# Altium schematic symbol library S7CAS_P07.SchLib: 14 symbols
Pins are listed as number, name and electrical type; pins without a type are passive.

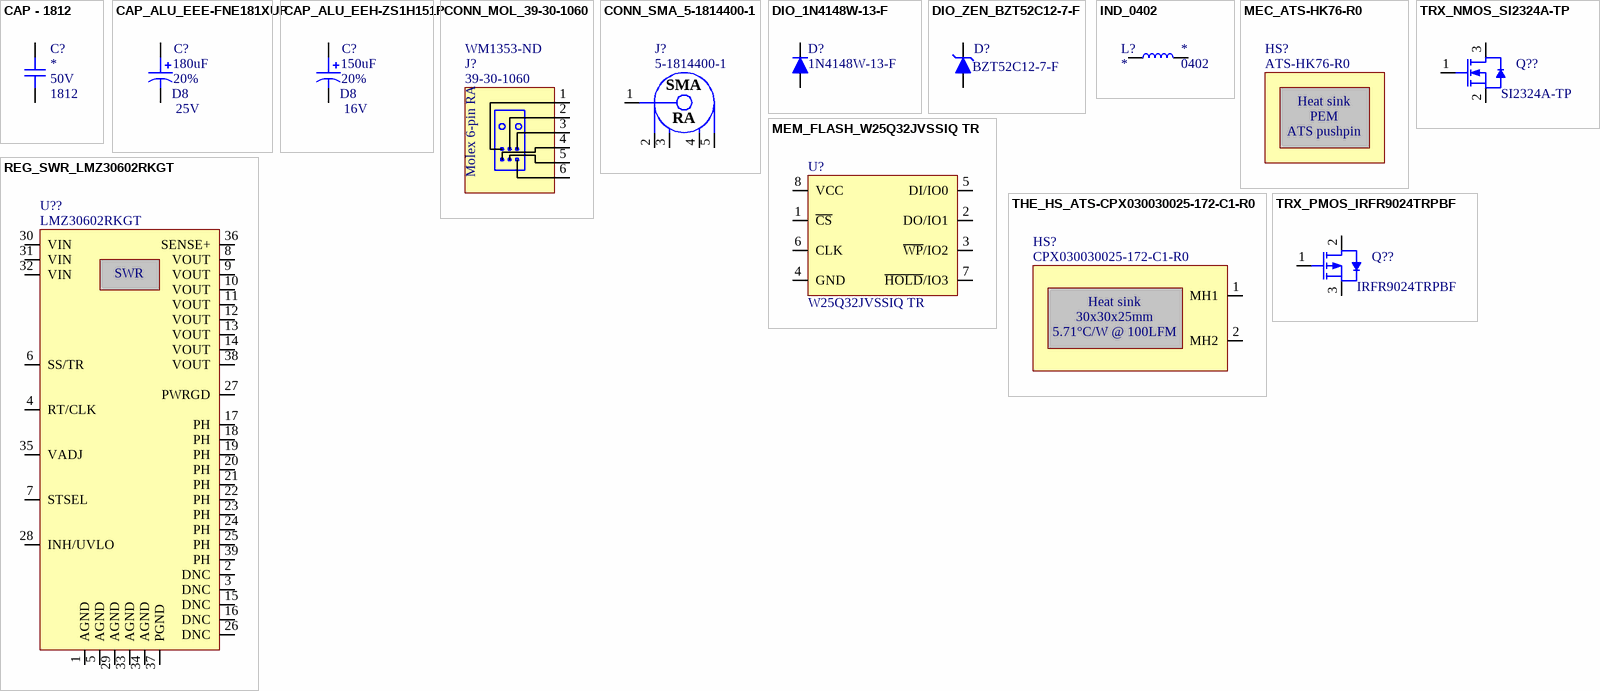
[diagram p0: symbols CAP - 1812 to TRX_PMOS_IRFR9024TRPBF]

## CAP - 1812
designator C?  Voltage: 50V  Package: 1812  (hidden comment: CAP - 1812)
Precision: 10%; Current: *; CreatedBy: Jonathan Bouchard; Power: *; Value: *
footprint CAP_1812
pins: 1, 2

## CAP_ALU_EEE-FNE181XUP
designator C?, comment value 180uF  Voltage: 25V  Package: D8  Precision: 20%  (hidden comment: EEE-FNE181XUP)
CAP ALUM 180UF 25VDC 20% SMD; CreatedBy: Philippe; Temperature: -55°C ~ 105°C; Power: *; Supplier 1: Allied Electronics; Supplier Part Number 1: 71942218
footprint CAP_ALU_D8 (Panasonic D8 can SMD)
pins: 1, 2

## CAP_ALU_EEH-ZS1H151P
designator C?, comment value 150uF  Voltage: 16V  Package: D8  Precision: 20%  (hidden comment: EEE-FKC151XAP)
CAP ALUM 150UF 20% 16V SMD; CreatedBy: Philippe; Temperature: -55°C ~ 105°C; Power: *; Supplier 1: Digi-Key; Supplier Part Number 1: PCE4401CT-ND
footprint CAP_ALU_D8 (Panasonic D8 can SMD)
pins: 1, 2

## CONN_MOL_39-30-1060
designator J?, comment 39-30-1060  Supplier Part Number 1: WM1353-ND
CONN - MOLEX 6 PIN RA; Voltage: *; Current: *; Power: *; Mfg: Molex; Mfg Part Number: 39-30-1060; HelpURL: https://www.molex.com/pdm_docs/sd/039301060_sd.pdf; CreatedBy: Philippe Arsenault / 2021-01-31; Temperature: -30°C ~ 105°C; Value: *; Precision: *; Package: TH-6; Supplier 1: Digi-Key
footprint CONN_MOL_39-30-1060 (6pin MOLEX RA)
pins: 1, 2, 3, 4, 5, 6
text: Molex 6-pin RA

## CONN_SMA_5-1814400-1
designator J?, comment 5-1814400-1
CONN -  SMA JACK R/A 50 OHM - TH; Mfg: TE Connectivity AMP Connectors; Voltage: *; Current: *; Power: *; Mfg Part Number: 5-1814400-1; HelpURL: http://www.te.com/commerce/DocumentDelivery/DDEController?Action=srchrtrv&DocNm=1814400&DocType=Customer+Drawing&DocLang=English; CreatedBy: Jonathan Bouchard; Temperature: -55°C ~ 85°C; Value: *; Precision: *; Package: TH-5; Supplier 1: Digikey; Supplier Part Number 1: A97593-ND
footprint CONN_SMA_5-1814400-1 (SMA Right Angle Jack, 14.8x6.35x9.6mm)
pins: 1, 2, 3, 4, 5
text: SMA; RA

## DIO_1N4148W-13-F
designator D?, comment 1N4148W-13-F
1N4148; Vendor: Diodes Inc; Built_By: EMA_UL_Team; SourceLibrary: DiodesInc_2015-05-08; Type: DEV; Manufacturer_Part_Number: 1N4148W-13-F; Copyright: Copyright (C) 2018 Accelerated Designs. All rights reserved; RefDes: RefDes
footprint SOD123_DIO
pins: 1, 2

## DIO_ZEN_BZT52C12-7-F
designator D?, comment BZT52C12-7-F
Zener Diode 12V 500mW ±5% Surface Mount SOD-123; Vendor: Diodes Inc; Built_By: EMA_UL_Team; SourceLibrary: DiodesInc_2015-05-08; Type: DEV; Manufacturer_Part_Number: BZT52C12-7-F; Copyright: Copyright (C) 2018 Accelerated Designs. All rights reserved; RefDes: RefDes
footprint SOD123_DIO
pins: 1, 2

## IND_0402
designator L?  Package: 0402  (hidden comment: IND_0402)
Voltage: *; CreatedBy: Jonathan Bouchard; Power: *; NI: *; Current: *; Precision: *; Value: *
footprint IND_0402
pins: 1, 2

## MEC_ATS-HK76-R0
designator HS?, comment ATS-HK76-R0
MEC - Heat Sink PEM - TH; Power Max: 5.71 °C/W @ 100LFM; HelpURL: https://www.digikey.ca/en/products/detail/advanced-thermal-solutions-inc/ATS-HK76-R0/4809541; Part Number #1: ATS-HK76-R0; Supplier 1: Digi-Key; Supplier Part Number 1: ATS1911-ND
footprint THE_HS_ATS-CPX030030025-172-C1-R0
text: Heat sink; PEM; ATS pushpin

## MEM_FLASH_W25Q32JVSSIQ TR
designator U?, comment W25Q32JVSSIQ TR
MEM - FLASH NOR 32Mb 133MHZ - 8-SOIC; Voltage: 2.7 V ~ 3.6 V; Mfg: Winbond Electronics; Current: *; Power: *; Mfg Part Number: W25Q32JVSSIQ TR; HelpURL: https://www.winbond.com/resource-files/w25q32jv%20revg%2003272018%20plus.pdf; CreatedBy: Louis-Daniel Gaulin; Temperature: -40°C ~ 85°C (TA); Value: *; Precision: *; Package: 8-SOIC; Supplier Part Number 1: W25Q32JVSSIQCT-ND; Supplier 1: Digikey
footprint MEM_FLASH_W25Q32JVSSIQ TR
pins: 1 ~{CS}, 2 DO/IO1, 3 ~{WP}/IO2, 4 GND, 5 DI/IO0, 6 CLK, 7 ~{HOLD}/IO3, 8 VCC

## REG_SWR_LMZ30602RKGT
designator U??, comment LMZ30602RKGT
REG - DC DC Converter / Non-Isolated  Output 0.8 ~ 3.6V 2A 2.95V - 6V Input; Manufacturer #1: Texas Instruments; Value: 0.8-3.6V; Voltage Rating: 2.95-6V; Power Max: 7W; GRAMS Lib Spec: 2.8c; Magnetic Material: Unknown; Polarized: Yes; Tolerance: *; Current Rating: 2A; HelpURL: https://www.ti.com/lit/ds/symlink/lmz30602.pdf?ts=1612193535337&ref_url=https%253A%252F%252Fwww.ti.com%252Fproduct%252FLMZ30602%253Futm_source%253Dgoogle%2526utm_medium%253Dcpc%2526utm_campaign%253Dapp-null-null-GPN_EN-cpc-pf-google-wwe%2526utm_content%253DLMZ30602%2526ds_k%253DLMZ30602%2526DCM%253Dyes%2526gclid%253DCj0KCQiA6t6ABhDMARIsAONIYywbX5HTDjPcy63-ILCw60ouTSqFGPALMyLaft3c1Oc_UEXWX4eCDSkaAiF9EALw_wcB%2526gclsrc%253Daw.ds; CreatedBy/Date: Philippe Arsenault/2021-02-01; Temperature: -40°C ~ 85°C; Package: 39-BQFN Module; Manufacturer #2: *; Note: *; Assembly Type: SMD; Part Number #2: *; Part Number #1: LMZ30602RKGT; Cryo: UNKNOWN; Supplier 1: Digi-Key; Supplier Part Number 1: 296-37029-1-ND
footprint REG_SWI_LMZ30606RKGT (LMZ30602RKGT)
pins: 1 AGND, 2 DNC, 3 DNC, 4 RT/CLK, 5 AGND, 6 SS/TR, 7 STSEL, 8 VOUT, 9 VOUT, 10 VOUT, 11 VOUT, 12 VOUT, 13 VOUT, 14 VOUT, 15 DNC, 16 DNC, 17 PH, 18 PH, 19 PH, 20 PH, 21 PH, 22 PH, 23 PH, 24 PH, 25 PH, 26 DNC, 27 PWRGD, 28 INH/UVLO, 29 AGND, 30 VIN, 31 VIN, 32 VIN, 33 AGND, 34 AGND, 35 VADJ, 36 SENSE+, 37 PGND, 38 VOUT, 39 PH
text: SWR

## THE_HS_ATS-CPX030030025-172-C1-R0
designator HS?, comment CPX030030025-172-C1-R0
THE_HS - Heat Sink 30x30x25 mm - TH; Power Max: 5.71 °C/W @ 100LFM; HelpURL: https://www.digikey.ca/en/products/detail/advanced-thermal-solutions-inc/ATS-CPX030030025-172-C1-R0/4753835; Part Number #1: CPX030030025-172-C1-R0; Supplier 1: Digi-Key; Supplier Part Number 1: ATS35935-ND
footprint THE_HS_ATS-CPX030030025-172-C1-R0
pins: 1 MH1, 2 MH2
text: Heat sink; 30x30x25mm; 5.71°C/W @ 100LFM

## TRX_NMOS_SI2324A-TP
designator Q??, comment SI2324A-TP
TRX - MOSFET N-CH 100V 2A - SOT-23; Manufacturer #1: Micro Commercial Co; Power Max: 350mW; Voltage rating: 100V (Vds max), 2V (Vgs @ 250uA); Polarized: Yes; Magnetic Material: UNKNOWN; Current Rating: 2A; Manufacturer #2: *; Value: *; Part Number #1: SI2324A-TP; Part Number #2: *; HelpURL: https://www.mccsemi.com/pdf/Products/SI2324A(SOT-23)-A.pdf; Supplier 1: Digi-Key; Supplier Part Number 1: SI2324A-TPMSCT-ND; Assembly Type: SMD; Temperature: -55°C ~ 150°C (TJ); Package: SOT-23; CreatedBy/Date: *; GRAMS Lib Spec: *; Tolerance: *; VerifiedBy: *; Cryo: *
footprint TRX_NMOS_SI324A-TP
pins: 1 G, 2 S, 3 D

## TRX_PMOS_IRFR9024TRPBF
designator Q??, comment IRFR9024TRPBF
TRX - MOSFET P-CH 60V 8.8A - Surface Mount D-Pak; Manufacturer #1: Vishay Siliconix; Power Max: 2.5W (Ta), 42W (Tc); Voltage rating: 60V (Vds max), 4V (Vgs @ 250uA); Polarized: Yes; Magnetic Material: UNKNOWN; GRAMS Lib Spec: 2.8c; Current Rating: 8.8A; Manufacturer #2: *; Value: *; Part Number #1: IRFR9024TRPBF; Part Number #2: *; HelpURL: https://www.vishay.com/docs/91278/sihfr902.pdf; Assembly Type: SMD; Temperature: -55°C ~ 150°C (TJ); Package: D-Pak; CreatedBy/Date: Philippe Arsenault / 2021-01-31; Tolerance: *; Cryo: UNKNOWN; Supplier 1: Digi-Key; Supplier Part Number 1: IRFR9024PBFCT-ND
footprint TRX_PMOS_IRFR9024TRPBF (D-PAK)
pins: 1 G, 2 S, 3 D